# Altium footprint library 16-VQFN(4x4)_EP.PcbLib: 1 footprints
Each footprint in its own frame and in the unit in brackets; x right, y up, seen from the top. Pads: shape width x height; smd on the part's side, far side on the other; paste and mask are expansions set on the pad; w line width, h text height; cw(c..) or ccw(c..) is an arc to the next point about the centre after c.
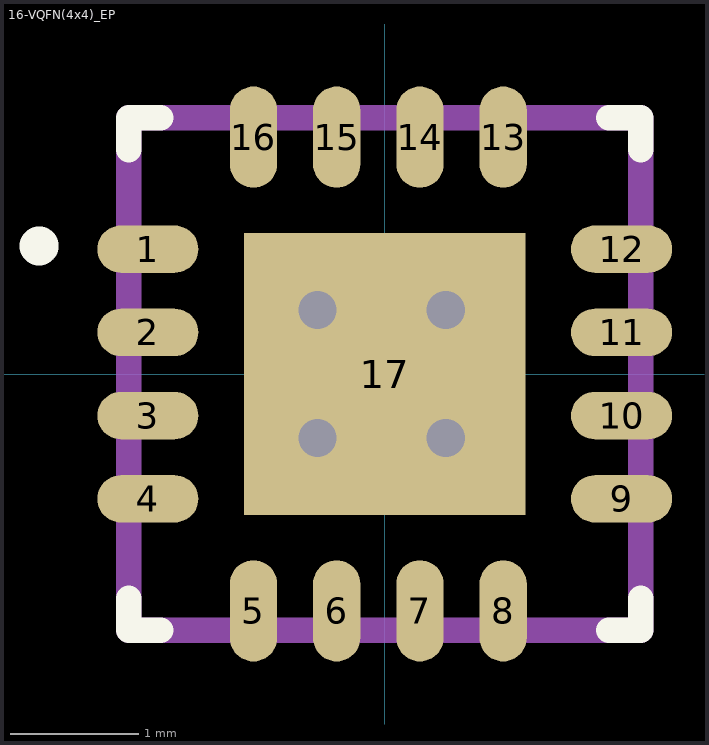
[diagram p0: the footprint, top view; thin cyan lines are the x and y axes]

## 16-VQFN(4x4)_EP [mm]
pads (17):
  oval 0.79x0.37 smd mask+0.051: 1(-1.85,0.975) 2(-1.85,0.325) 3(-1.85,-0.325) 4(-1.85,-0.975) 9(1.85,-0.975) 10(1.85,-0.325) 11(1.85,0.325) 12(1.85,0.975)
  oval 0.37x0.79 smd mask+0.051: 5(-1.025,-1.85) 6(-0.375,-1.85) 7(0.275,-1.85) 8(0.925,-1.85) 13(0.925,1.85) 14(0.275,1.85) 15(-0.375,1.85) 16(-1.025,1.85)
  rect 2.2x2.2 smd mask+0.051: 17(0,0)
via 0.475,-0.5 diameter 0.6 hole 0.3
via -0.525,-0.5 diameter 0.6 hole 0.3
via -0.525,0.5 diameter 0.6 hole 0.3
via 0.475,0.5 diameter 0.6 hole 0.3
Top Overlay:
  circle w0.254: c-2.7,1 r0.025
  lines w0.2: -2,-1.75 -2,-2 -1.75,-2 ; -2,1.75 -2,2 -1.75,2 ; 1.75,-2 2,-2 2,-1.75 ; 1.75,2 2,2 2,1.75
Mechanical 13:
  lines w0.2: -2,-2 -2,2 2,2 2,-2 -2,-2
Mechanical 15:
  lines w0.2: -0.5,0 0,0 ; 0,0 0,-0.5 0,0 ; 0,0 0.5,0 0,0 ; 0,0 0,0.5 0,0
3D body "16-VQFN(4x4)_EP.STEP": height 0.8, standoff 0, extent -2,-2 2,2